# Altium footprint library bk2022.PcbLib: 1 footprints
Each footprint in its own frame and in the unit in brackets; x right, y up, seen from the top. Pads: shape width x height; smd on the part's side, far side on the other; paste and mask are expansions set on the pad; w line width, h text height; cw(c..) or ccw(c..) is an arc to the next point about the centre after c.
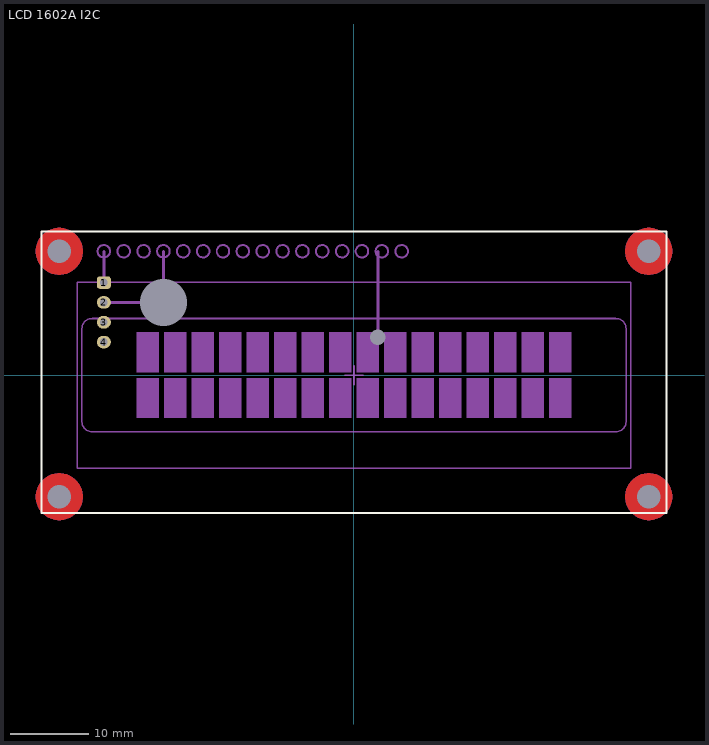
[diagram p0: the footprint, top view; thin cyan lines are the x and y axes]

## LCD 1602A I2C [mm]
pads (10):
  rrect50% 1.8x1.6 hole 1: 1(-32,11.85)
  oval 1.8x1.6 hole 1: 2(-32,9.31) 3(-32,6.77) 4(-32,4.23)
  round 0 hole 6 unplated: HOLE(-24.38,9.31)
  round 0 hole 2 unplated: HOLE(3.06,4.85)
  round 0 hole 3 unplated: HOLG(37.7,-15.55) HOLH(-37.7,-15.55) HOLH(-37.7,15.85) HOLH(37.7,15.85)
Top Layer:
  pour cut-out: 34.7,-15.55 34.7,-15.747 34.751,-16.137 34.853,-16.516 35.004,-16.88 35.2,-17.22 35.44,-17.532 35.718,-17.81 36.03,-18.05 36.37,-18.246 36.734,-18.397 37.113,-18.499 37.503,-18.55 37.7,-18.55 37.897,-18.55 38.287,-18.499 38.666,-18.397 39.03,-18.246 39.37,-18.05 39.682,-17.81 39.96,-17.532 40.2,-17.22 40.396,-16.88 40.547,-16.516 40.649,-16.136 40.7,-15.747 40.7,-15.55 40.7,-15.353 40.649,-14.963 40.547,-14.584 40.396,-14.22 40.2,-13.88 39.96,-13.568 39.682,-13.29 39.37,-13.05 39.03,-12.854 38.666,-12.703 38.287,-12.601 37.897,-12.55 37.7,-12.55 37.503,-12.55 37.113,-12.601 36.734,-12.703 36.37,-12.854 36.03,-13.05 35.718,-13.29 35.44,-13.568 35.2,-13.88 35.004,-14.22 34.853,-14.584 34.751,-14.963 34.7,-15.353
  pour cut-out: -40.7,-15.55 -40.7,-15.747 -40.649,-16.137 -40.547,-16.516 -40.396,-16.88 -40.2,-17.22 -39.96,-17.532 -39.682,-17.81 -39.37,-18.05 -39.03,-18.246 -38.666,-18.397 -38.287,-18.499 -37.897,-18.55 -37.7,-18.55 -37.503,-18.55 -37.113,-18.499 -36.734,-18.397 -36.37,-18.246 -36.03,-18.05 -35.718,-17.81 -35.44,-17.532 -35.2,-17.22 -35.004,-16.88 -34.853,-16.516 -34.751,-16.136 -34.7,-15.747 -34.7,-15.55 -34.7,-15.353 -34.751,-14.963 -34.853,-14.584 -35.004,-14.22 -35.2,-13.88 -35.44,-13.568 -35.718,-13.29 -36.03,-13.05 -36.37,-12.854 -36.734,-12.703 -37.113,-12.601 -37.503,-12.55 -37.7,-12.55 -37.897,-12.55 -38.287,-12.601 -38.666,-12.703 -39.03,-12.854 -39.37,-13.05 -39.682,-13.29 -39.96,-13.568 -40.2,-13.88 -40.396,-14.22 -40.547,-14.584 -40.649,-14.963 -40.7,-15.353
  pour cut-out: -40.7,15.85 -40.7,15.653 -40.649,15.263 -40.547,14.884 -40.396,14.52 -40.2,14.18 -39.96,13.868 -39.682,13.59 -39.37,13.35 -39.03,13.154 -38.666,13.003 -38.287,12.901 -37.897,12.85 -37.7,12.85 -37.503,12.85 -37.113,12.901 -36.734,13.003 -36.37,13.154 -36.03,13.35 -35.718,13.59 -35.44,13.868 -35.2,14.18 -35.004,14.52 -34.853,14.884 -34.751,15.264 -34.7,15.653 -34.7,15.85 -34.7,16.047 -34.751,16.437 -34.853,16.816 -35.004,17.18 -35.2,17.52 -35.44,17.832 -35.718,18.11 -36.03,18.35 -36.37,18.546 -36.734,18.697 -37.113,18.799 -37.503,18.85 -37.7,18.85 -37.897,18.85 -38.287,18.799 -38.666,18.697 -39.03,18.546 -39.37,18.35 -39.682,18.11 -39.96,17.832 -40.2,17.52 -40.396,17.18 -40.547,16.816 -40.649,16.437 -40.7,16.047
  pour cut-out: 34.7,15.85 34.7,15.653 34.751,15.263 34.853,14.884 35.004,14.52 35.2,14.18 35.44,13.868 35.718,13.59 36.03,13.35 36.37,13.154 36.734,13.003 37.113,12.901 37.503,12.85 37.7,12.85 37.897,12.85 38.287,12.901 38.666,13.003 39.03,13.154 39.37,13.35 39.682,13.59 39.96,13.868 40.2,14.18 40.396,14.52 40.547,14.884 40.649,15.264 40.7,15.653 40.7,15.85 40.7,16.047 40.649,16.437 40.547,16.816 40.396,17.18 40.2,17.52 39.96,17.832 39.682,18.11 39.37,18.35 39.03,18.546 38.666,18.697 38.287,18.799 37.897,18.85 37.7,18.85 37.503,18.85 37.113,18.799 36.734,18.697 36.37,18.546 36.03,18.35 35.718,18.11 35.44,17.832 35.2,17.52 35.004,17.18 34.853,16.816 34.751,16.437 34.7,16.047
Bottom Layer:
  pour cut-out: 34.7,-15.55 34.7,-15.747 34.751,-16.137 34.853,-16.516 35.004,-16.88 35.2,-17.22 35.44,-17.532 35.718,-17.81 36.03,-18.05 36.37,-18.246 36.734,-18.397 37.113,-18.499 37.503,-18.55 37.7,-18.55 37.897,-18.55 38.287,-18.499 38.666,-18.397 39.03,-18.246 39.37,-18.05 39.682,-17.81 39.96,-17.532 40.2,-17.22 40.396,-16.88 40.547,-16.516 40.649,-16.136 40.7,-15.747 40.7,-15.55 40.7,-15.353 40.649,-14.963 40.547,-14.584 40.396,-14.22 40.2,-13.88 39.96,-13.568 39.682,-13.29 39.37,-13.05 39.03,-12.854 38.666,-12.703 38.287,-12.601 37.897,-12.55 37.7,-12.55 37.503,-12.55 37.113,-12.601 36.734,-12.703 36.37,-12.854 36.03,-13.05 35.718,-13.29 35.44,-13.568 35.2,-13.88 35.004,-14.22 34.853,-14.584 34.751,-14.963 34.7,-15.353
  pour cut-out: -40.7,-15.55 -40.7,-15.747 -40.649,-16.137 -40.547,-16.516 -40.396,-16.88 -40.2,-17.22 -39.96,-17.532 -39.682,-17.81 -39.37,-18.05 -39.03,-18.246 -38.666,-18.397 -38.287,-18.499 -37.897,-18.55 -37.7,-18.55 -37.503,-18.55 -37.113,-18.499 -36.734,-18.397 -36.37,-18.246 -36.03,-18.05 -35.718,-17.81 -35.44,-17.532 -35.2,-17.22 -35.004,-16.88 -34.853,-16.516 -34.751,-16.136 -34.7,-15.747 -34.7,-15.55 -34.7,-15.353 -34.751,-14.963 -34.853,-14.584 -35.004,-14.22 -35.2,-13.88 -35.44,-13.568 -35.718,-13.29 -36.03,-13.05 -36.37,-12.854 -36.734,-12.703 -37.113,-12.601 -37.503,-12.55 -37.7,-12.55 -37.897,-12.55 -38.287,-12.601 -38.666,-12.703 -39.03,-12.854 -39.37,-13.05 -39.682,-13.29 -39.96,-13.568 -40.2,-13.88 -40.396,-14.22 -40.547,-14.584 -40.649,-14.963 -40.7,-15.353
  pour cut-out: -40.7,15.85 -40.7,15.653 -40.649,15.263 -40.547,14.884 -40.396,14.52 -40.2,14.18 -39.96,13.868 -39.682,13.59 -39.37,13.35 -39.03,13.154 -38.666,13.003 -38.287,12.901 -37.897,12.85 -37.7,12.85 -37.503,12.85 -37.113,12.901 -36.734,13.003 -36.37,13.154 -36.03,13.35 -35.718,13.59 -35.44,13.868 -35.2,14.18 -35.004,14.52 -34.853,14.884 -34.751,15.264 -34.7,15.653 -34.7,15.85 -34.7,16.047 -34.751,16.437 -34.853,16.816 -35.004,17.18 -35.2,17.52 -35.44,17.832 -35.718,18.11 -36.03,18.35 -36.37,18.546 -36.734,18.697 -37.113,18.799 -37.503,18.85 -37.7,18.85 -37.897,18.85 -38.287,18.799 -38.666,18.697 -39.03,18.546 -39.37,18.35 -39.682,18.11 -39.96,17.832 -40.2,17.52 -40.396,17.18 -40.547,16.816 -40.649,16.437 -40.7,16.047
  pour cut-out: 34.7,15.85 34.7,15.653 34.751,15.263 34.853,14.884 35.004,14.52 35.2,14.18 35.44,13.868 35.718,13.59 36.03,13.35 36.37,13.154 36.734,13.003 37.113,12.901 37.503,12.85 37.7,12.85 37.897,12.85 38.287,12.901 38.666,13.003 39.03,13.154 39.37,13.35 39.682,13.59 39.96,13.868 40.2,14.18 40.396,14.52 40.547,14.884 40.649,15.264 40.7,15.653 40.7,15.85 40.7,16.047 40.649,16.437 40.547,16.816 40.396,17.18 40.2,17.52 39.96,17.832 39.682,18.11 39.37,18.35 39.03,18.546 38.666,18.697 38.287,18.799 37.897,18.85 37.7,18.85 37.503,18.85 37.113,18.799 36.734,18.697 36.37,18.546 36.03,18.35 35.718,18.11 35.44,17.832 35.2,17.52 35.004,17.18 34.853,16.816 34.751,16.437 34.7,16.047
Top Overlay:
  lines w0.254: -40,-17.65 -40,18.35 40,18.35 40,-17.65 -40,-17.65
Mechanical 1:
  circle w0.254: c37.7,-15.55 r2
  circle w0.254: c-37.7,-15.55 r2
  circle w0.254: c-32,15.85 r0.8
  circle w0.254: c-29.46,15.85 r0.8
  circle w0.254: c-26.92,15.85 r0.8
  circle w0.254: c-24.38,15.85 r0.8
  circle w0.254: c-21.84,15.85 r0.8
  circle w0.254: c-19.3,15.85 r0.8
  circle w0.254: c-16.76,15.85 r0.8
  circle w0.254: c-14.22,15.85 r0.8
  circle w0.254: c-11.68,15.85 r0.8
  circle w0.254: c-9.14,15.85 r0.8
  circle w0.254: c-6.6,15.85 r0.8
  circle w0.254: c-4.06,15.85 r0.8
  circle w0.254: c-1.52,15.85 r0.8
  circle w0.254: c1.02,15.85 r0.8
  circle w0.254: c3.56,15.85 r0.8
  circle w0.254: c6.1,15.85 r0.8
  circle w0.254: c-37.7,15.85 r2
  circle w0.254: c37.7,15.85 r2
  lines w0.381: -32,9.31 -24.38,9.31 -24.38,15.85 ; -32,11.85 -32,15.85 ; 3.06,4.85 3.06,15.85
Mechanical 13:
  rectangle: 24.95,0.35 27.85,5.5
  rectangle: 24.95,-5.5 27.85,-0.35
  rectangle: 21.43,0.35 24.33,5.5
  rectangle: 21.43,-5.5 24.33,-0.35
  rectangle: 17.91,0.35 20.81,5.5
  rectangle: 17.91,-5.5 20.81,-0.35
  rectangle: 14.39,0.35 17.29,5.5
  rectangle: 14.39,-5.5 17.29,-0.35
  rectangle: 10.87,0.35 13.77,5.5
  rectangle: 10.87,-5.5 13.77,-0.35
  rectangle: 7.35,0.35 10.25,5.5
  rectangle: 7.35,-5.5 10.25,-0.35
  rectangle: 3.83,0.35 6.73,5.5
  rectangle: 3.83,-5.5 6.73,-0.35
  rectangle: 0.31,0.35 3.21,5.5
  rectangle: 0.31,-5.5 3.21,-0.35
  rectangle: -3.21,0.35 -0.31,5.5
  rectangle: -3.21,-5.5 -0.31,-0.35
  rectangle: -6.73,0.35 -3.83,5.5
  rectangle: -6.73,-5.5 -3.83,-0.35
  rectangle: -10.25,0.35 -7.35,5.5
  rectangle: -10.25,-5.5 -7.35,-0.35
  rectangle: -13.77,0.35 -10.87,5.5
  rectangle: -13.77,-5.5 -10.87,-0.35
  rectangle: -17.29,0.35 -14.39,5.5
  rectangle: -17.29,-5.5 -14.39,-0.35
  rectangle: -20.81,0.35 -17.91,5.5
  rectangle: -20.81,-5.5 -17.91,-0.35
  rectangle: -24.33,0.35 -21.43,5.5
  rectangle: -24.33,-5.5 -21.43,-0.35
  rectangle: -27.85,-5.5 -24.95,-0.35
  rectangle: -27.85,0.35 -24.95,5.5
  lines w0.203: -1.2,0 1.2,0 ; 0,-1.2 0,1.2 ; -35.4,-11.9 35.4,-11.9 35.4,11.9 -35.4,11.9 -35.4,-11.9 ; -34.8,-5.95 ccw(c-33.5,-5.95) -33.5,-7.25 33.5,-7.25 ccw(c33.5,-5.95) 34.8,-5.95 34.8,5.95 ccw(c33.5,5.95) 33.5,7.25 -33.5,7.25 ccw(c-33.5,5.95) -34.8,5.95 -34.8,-5.95
3D body "Samtec Header 4pin 2.54mm.STEP": height 8.89, standoff -2.03, extent -33.27,2.96 -30.73,13.12
3D body "User Library-AC162B.step": height 22, standoff 8.1, extent -40,-17.65 40,18.35
3D body: height 11, standoff 0, extent 34.785,-18.099 40.615,-13.001
3D body: height 0, standoff -6, extent 36.2,-17.05 39.2,-14.05
3D body: height 11, standoff 0, extent -40.615,-18.099 -34.785,-13.001
3D body: height 0, standoff -6, extent -39.2,-17.05 -36.2,-14.05
3D body: height 11, standoff 0, extent -40.615,13.301 -34.785,18.399
3D body: height 0, standoff -6, extent -39.2,14.35 -36.2,17.35
3D body: height 11, standoff 0, extent 34.785,13.301 40.615,18.399
3D body: height 0, standoff -6, extent 36.2,14.35 39.2,17.35